# Altium footprint library NodeMCU.PcbLib: 3 footprints
Each footprint in its own frame and in the unit in brackets; x right, y up, seen from the top. Pads: shape width x height; smd on the part's side, far side on the other; paste and mask are expansions set on the pad; w line width, h text height; cw(c..) or ccw(c..) is an arc to the next point about the centre after c.
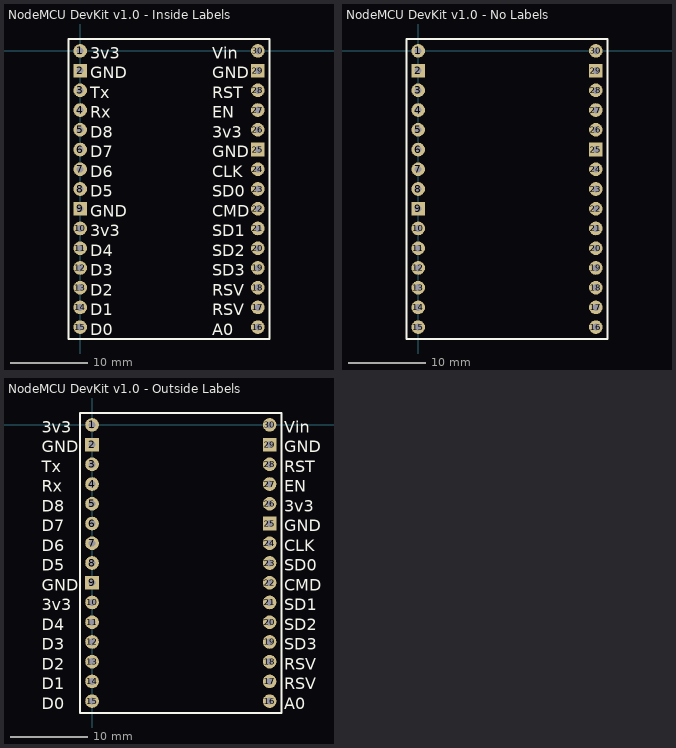
[diagram p0: the footprints below, top view; thin cyan lines are the x and y axes]

## NodeMCU DevKit v1.0 - Inside Labels [mil]
pads (30):
  round 69 hole 35: 1(0,0) 3(0,-200) 4(0,-300) 5(0,-400) 6(0,-500) 7(0,-600) 8(0,-700) 10(0,-900) 11(0,-1000) 12(0,-1100) 13(0,-1200) 14(0,-1300) 15(0,-1400) 16(900,-1400) 17(900,-1300) 18(900,-1200) 19(900,-1100) 20(900,-1000) 21(900,-900) 22(900,-800) 23(900,-700) 24(900,-600) 26(900,-400) 27(900,-300) 28(900,-200) 30(900,0)
  rect 69x69 hole 35: 2(0,-100) 9(0,-800) 25(900,-500) 29(900,-100)
Top Overlay:
  lines w10: -60,-1460 960,-1460 960,60 -60,60 -60,-1460
  text "Vin" at 670,-39.99 h60
  text "GND" at 670,-139.99 h60
  text "RST" at 670,-239.99 h60
  text "EN" at 670,-339.99 h60
  text "3v3" at 670,-439.99 h60
  text "GND" at 670,-539.99 h60
  text "CLK" at 670,-639.99 h60
  text "SD0" at 670,-739.99 h60
  text "CMD" at 670,-839.99 h60
  text "SD1" at 670,-939.99 h60
  text "SD2" at 670,-1039.99 h60
  text "SD3" at 670,-1139.99 h60
  text "RSV" at 670,-1239.99 h60
  text "RSV" at 670,-1339.99 h60
  text "A0" at 670,-1439.99 h60
  text "D0" at 50,-1439.99 h60
  text "D1" at 50,-1339.99 h60
  text "D2" at 50,-1239.99 h60
  text "D3" at 50,-1139.99 h60
  text "D4" at 50,-1039.99 h60
  text "3v3" at 50,-939.99 h60
  text "GND" at 50,-839.99 h60
  text "D5" at 50,-739.99 h60
  text "D6" at 50,-639.99 h60
  text "D7" at 50,-539.99 h60
  text "D8" at 50,-439.99 h60
  text "Rx" at 50,-339.99 h60
  text "Tx" at 50,-239.99 h60
  text "GND" at 50,-139.99 h60
  text "3v3" at 50,-39.99 h60

## NodeMCU DevKit v1.0 - No Labels [mil]
pads (30):
  round 69 hole 35: 1(0,0) 3(0,-200) 4(0,-300) 5(0,-400) 6(0,-500) 7(0,-600) 8(0,-700) 10(0,-900) 11(0,-1000) 12(0,-1100) 13(0,-1200) 14(0,-1300) 15(0,-1400) 16(900,-1400) 17(900,-1300) 18(900,-1200) 19(900,-1100) 20(900,-1000) 21(900,-900) 22(900,-800) 23(900,-700) 24(900,-600) 26(900,-400) 27(900,-300) 28(900,-200) 30(900,0)
  rect 69x69 hole 35: 2(0,-100) 9(0,-800) 25(900,-500) 29(900,-100)
Top Overlay:
  lines w10: -60,-1460 -60,60 960,60 960,-1460 -60,-1460

## NodeMCU DevKit v1.0 - Outside Labels [mil]
pads (30):
  round 69 hole 35: 1(0,0) 3(0,-200) 4(0,-300) 5(0,-400) 6(0,-500) 7(0,-600) 8(0,-700) 10(0,-900) 11(0,-1000) 12(0,-1100) 13(0,-1200) 14(0,-1300) 15(0,-1400) 16(900,-1400) 17(900,-1300) 18(900,-1200) 19(900,-1100) 20(900,-1000) 21(900,-900) 22(900,-800) 23(900,-700) 24(900,-600) 26(900,-400) 27(900,-300) 28(900,-200) 30(900,0)
  rect 69x69 hole 35: 2(0,-100) 9(0,-800) 25(900,-500) 29(900,-100)
Top Overlay:
  lines w10: -60,-1460 960,-1460 960,60 -60,60 -60,-1460
  text "D0" at -255,-1439.99 h60
  text "D1" at -255,-1339.99 h60
  text "D2" at -255,-1239.99 h60
  text "D3" at -255,-1139.99 h60
  text "D4" at -255,-1039.99 h60
  text "3v3" at -255,-939.99 h60
  text "GND" at -255,-839.99 h60
  text "D5" at -255,-739.99 h60
  text "D6" at -255,-639.99 h60
  text "D7" at -255,-539.99 h60
  text "D8" at -255,-439.99 h60
  text "Rx" at -255,-339.99 h60
  text "Tx" at -255,-239.99 h60
  text "GND" at -255,-139.99 h60
  text "3v3" at -255,-39.99 h60
  text "Vin" at 975,-39.99 h60
  text "GND" at 975,-139.99 h60
  text "RST" at 975,-239.99 h60
  text "EN" at 975,-339.99 h60
  text "3v3" at 975,-439.99 h60
  text "GND" at 975,-539.99 h60
  text "CLK" at 975,-639.99 h60
  text "SD0" at 975,-739.99 h60
  text "CMD" at 975,-839.99 h60
  text "SD1" at 975,-939.99 h60
  text "SD2" at 975,-1039.99 h60
  text "SD3" at 975,-1139.99 h60
  text "RSV" at 975,-1239.99 h60
  text "RSV" at 975,-1339.99 h60
  text "A0" at 975,-1439.99 h60